# Altium schematic symbol library Components - IMU 23.06.24 - 20.48.SchLib: 1 symbol
Pins are listed as number, name and electrical type; pins without a type are passive.

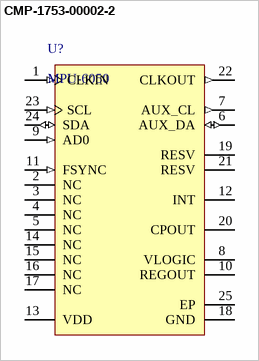
[diagram p0: symbol CMP-1753-00002-2]

## CMP-1753-00002-2
designator U?, comment MPU-6050
3-Axis Gyroscope, Accelerometer and a Digital Motion Processor(TM) (DMP), 2.375 to 3.46 V, -40 to 85 degC, 24-Pin QFN, RoHS, Tape and Reel; Manufacturer: InvenSense; Featured Product: MPU-60506-Axis,IntegratedI²CSolution; Other Names: 1428-1007-2 / MPU6050; Sensor Type: MotionTracking; Online Catalog: MPU-6000™Series; Unit PriceUSD: Digital; Datasheet Version: Rev. 3.3, 05/2012; Category: Sensors,Transducers; Datasheet URL: http://datasheet.octopart.com/MPU-6050-InvenSense-datasheet-14421344.pdf; Family: Multifunction; Standard Package: 5,000; Manufacturer URL: http://www.invensense.com/; Output Type: Digital; Dynamic Catalog: MPU-6000™Series
footprint IS-QFN-24_V (QFN, 24-Leads, Body 4x4mm, Pitch 0.5mm, Thermal Pad 2.7x2.6mm)
pins: 1 CLKIN (in) "Optional external reference clock input. Connect to GND if unused.", 2 NC "Not internally connected. May be used for PCB trace routing", 3 NC "Not internally connected. May be used for PCB trace routing", 4 NC "Not internally connected. May be used for PCB trace routing", 5 NC "Not internally connected. May be used for PCB trace routing", 6 AUX_DA (io) "I2C master serial data, for connecting to external sensors", 7 AUX_CL (out) "I2C Master serial clock, for connecting to external sensors", 8 VLOGIC (power) "Digital I/O supply voltage", 9 AD0 (in) "I2C Slave Address LSB (AD0)", 10 REGOUT "Regulator filter capacitor connection", 11 FSYNC (in) "Frame synchronization digital input. Connect to GND if unused.", 12 INT (oc) "Interrupt digital output (totem pole or open-drain)", 13 VDD (power) "Power supply voltage and Digital I/O supply voltage", 14 NC "Not internally connected. May be used for PCB trace routing", 15 NC "Not internally connected. May be used for PCB trace routing", 16 NC "Not internally connected. May be used for PCB trace routing", 17 NC "Not internally connected. May be used for PCB trace routing", 18 GND (power) "Power supply ground", 19 RESV "Reserved. Do not connect", 20 CPOUT "Charge pump capacitor connection", 21 RESV "Reserved. Do not connect", 22 CLKOUT (out) "System clock output", 23 SCL (in) "System clock output  I2C serial clock (SCL)", 24 SDA (io) "I2C serial data (SDA)", 25 EP (power) "Exposed Pad"